# Altium schematic symbol library keypad.SchLib: 1 symbol
Pins are listed as number, name and electrical type; pins without a type are passive.

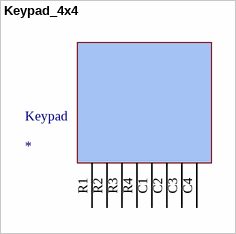
[diagram p0: symbol Keypad_4x4]

## Keypad_4x4
designator Keypad
pins: C1, C2, C3, C4, R1, R2, R3, R4